# EAGLE library part ZX62-B-5PA(11) (library con-usb)
Micro B - Standard (Bottom mount) Shell SMT
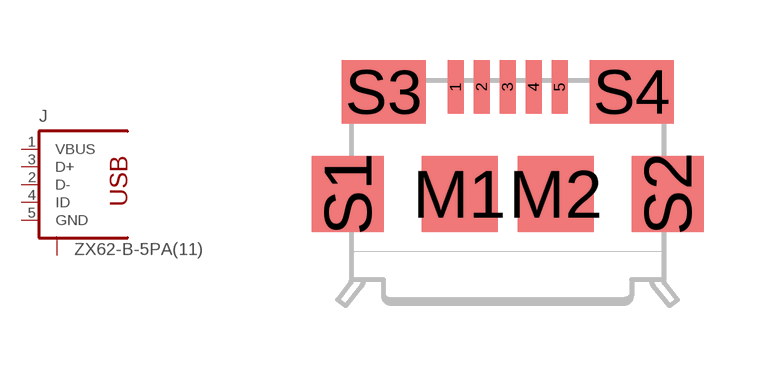
[diagram p11: symbol with the pads of ZX62-B-5PA(11); footprint ZX62-B-5PA(11)]

Designator prefix J

## ZX62-B-5PA(11) (DIGIKEY: H11634CT-ND)  [ZX62-B-5PA(11)]
1  VBUS  pas
2  D-  pas
3  D+  pas
4  ID  pas
5  GND  pas
M1  S  pas
M2  S  pas
S1  S  pas
S2  S  pas
S3  S  pas
S4  S  pas

## Footprint ZX62-B-5PA(11) (pad centres in mm)
MICRO USB B Standard (Bottom mount) Shell SMT
smd 0.4 x 1.35: 1 -1.3,4.125; 2 -0.65,4.125; 3 0,4.125; 4 0.65,4.125; 5 1.3,4.125
smd 1.9 x 1.9: M1 -1.2,1.45; M2 1.2,1.45
smd 1.8 x 1.9: S1 -4,1.45; S2 4,1.45
smd 2.1 x 1.6: S3 -3.1,4; S4 3.1,4